# Altium footprint library PCB.PCBLIB: 320 footprints (part 5 of 20)
Each footprint in its own frame and in the unit in brackets; x right, y up, seen from the top. Pads: shape width x height; smd on the part's side, far side on the other; paste and mask are expansions set on the pad; w line width, h text height; cw(c..) or ccw(c..) is an arc to the next point about the centre after c.
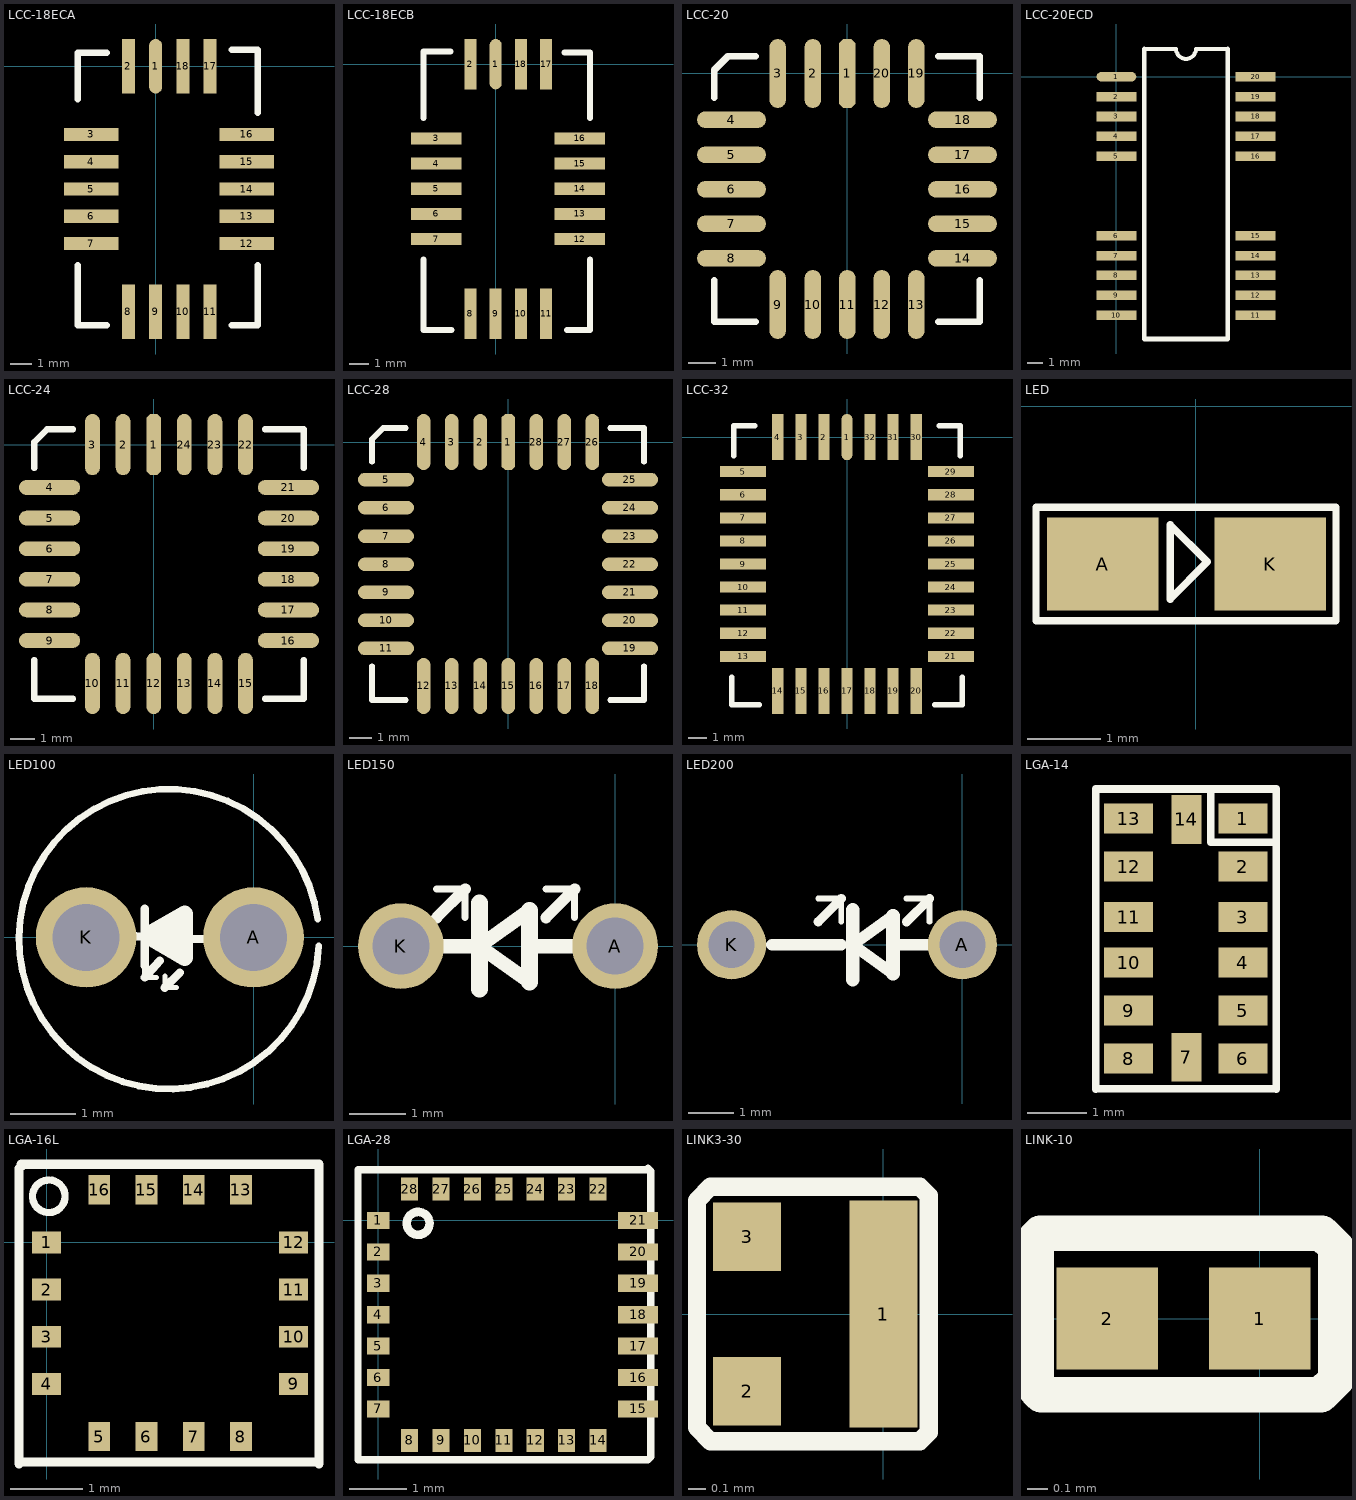
[diagram p4: the footprints below, top view; thin cyan lines are the x and y axes]

## LCC-18ECA [mil]
pads (18):
  oval 24x100 smd: 1(0,0)
  rect 24x100 smd: 2(-50,0) 8(-50,-450) 9(0,-450) 10(50,-450) 11(100,-450) 17(100,0) 18(50,0)
  rect 100x24 smd: 3(-118,-125) 4(-118,-175) 5(-118,-225) 6(-118,-275) 7(-118,-325) 12(167,-325) 13(167,-275) 14(167,-225) 15(167,-175) 16(167,-125)
TopOverlay:
  lines w12: -143,-365 -143,-475 -90,-475 ; -143,-60 -143,25 -90,25 ; 140,-475 187,-475 187,-365 ; 140,30 187,30 187,-85

## LCC-18ECB [mil]
pads (18):
  oval 24x100 smd: 1(0,0)
  rect 24x100 smd: 2(-50,0) 8(-50,-495) 9(0,-495) 10(50,-495) 11(100,-495) 17(100,0) 18(50,0)
  rect 100x24 smd: 3(-118,-147) 4(-118,-197) 5(-118,-247) 6(-118,-297) 7(-118,-347) 12(167,-347) 13(167,-297) 14(167,-247) 15(167,-197) 16(167,-147)
TopOverlay:
  lines w12: -143,-387 -143,-527 -88,-527 ; -143,-107 -143,25 -90,25 ; 137,23 187,23 187,-107 ; 142,-527 187,-527 187,-387

## LCC-20 [mil]
pads (20):
  oct 24x100 smd: 1(0,0)
  oval 24x100 smd: 2(-50,0) 3(-101,0) 9(-101,-335) 10(-50,-335) 11(0,-335) 12(50,-335) 13(100,-335) 19(100,0) 20(50,0)
  oval 100x24 smd: 4(-168,-67) 5(-168,-118) 6(-168,-168) 7(-168,-218) 8(-168,-268) 14(167,-268) 15(167,-218) 16(167,-168) 17(167,-118) 18(167,-67)
TopOverlay:
  lines w10: -193,-300 -193,-360 -133,-360 ; -193,-35 -193,5 -173,25 -133,25 ; 132,-360 192,-360 192,-300 ; 132,25 192,25 192,-35

## LCC-20ECD [mil]
pads (20):
  oval 100x24 smd: 1(0,0)
  rect 100x24 smd: 2(0,-50) 3(0,-100) 4(0,-150) 5(0,-200) 6(0,-400) 7(0,-450) 8(0,-500) 9(0,-550) 10(0,-600) 11(350,-600) 12(350,-550) 13(350,-500) 14(350,-450) 15(350,-400) 16(350,-200) 17(350,-150) 18(350,-100) 19(350,-50) 20(350,0)
TopOverlay:
  lines w10: 70,70 150,70 ccw(c175,70) 200,70 280,70
  lines w12: 70,70 70,-660 280,-660 280,70

## LCC-24 [mil]
pads (24):
  oct 24x100 smd: 1(0,0)
  oval 24x100 smd: 2(-50,0) 3(-100,0) 10(-100,-390) 11(-50,-390) 12(0,-390) 13(50,-390) 14(100,-390) 15(150,-390) 22(150,0) 23(100,0) 24(50,0)
  oval 100x24 smd: 4(-170,-70) 5(-170,-120) 6(-170,-170) 7(-170,-220) 8(-170,-270) 9(-170,-320) 16(220,-320) 17(220,-270) 18(220,-220) 19(220,-170) 20(220,-120) 21(220,-70)
TopOverlay:
  lines w10: -195,-352 -195,-415 -132,-415 ; -195,-38 -195,4 -174,25 -132,25 ; 182,-415 245,-415 245,-352 ; 182,25 245,25 245,-38

## LCC-28 [mil]
pads (28):
  oct 24x100 smd: 1(0,0)
  oval 24x100 smd: 2(-50,0) 3(-101,0) 4(-151,0) 12(-151,-435) 13(-101,-435) 14(-50,-435) 15(0,-435) 16(50,-435) 17(100,-435) 18(150,-435) 26(150,0) 27(100,0) 28(50,0)
  oval 100x24 smd: 5(-218,-67) 6(-218,-117) 7(-218,-168) 8(-218,-218) 9(-218,-268) 10(-218,-318) 11(-218,-368) 19(217,-368) 20(217,-318) 21(217,-268) 22(217,-218) 23(217,-168) 24(217,-117) 25(217,-67)
TopOverlay:
  lines w10: -243,-400 -243,-460 -183,-460 ; -243,-35 -243,5 -223,25 -183,25 ; 182,-460 242,-460 242,-400 ; 182,25 242,25 242,-35

## LCC-32 [mil]
pads (32):
  oval 24x100 smd: 1(0,0)
  rect 24x100 smd: 2(-50,0) 3(-100,0) 4(-150,0) 14(-150,-550) 15(-100,-550) 16(-50,-550) 17(0,-550) 18(50,-550) 19(100,-550) 20(150,-550) 30(150,0) 31(100,0) 32(50,0)
  rect 100x24 smd: 5(-225,-75) 6(-225,-125) 7(-225,-175) 8(-225,-225) 9(-225,-275) 10(-225,-325) 11(-225,-375) 12(-225,-425) 13(-225,-475) 21(225,-475) 22(225,-425) 23(225,-375) 24(225,-325) 25(225,-275) 26(225,-225) 27(225,-175) 28(225,-125) 29(225,-75)
TopOverlay:
  lines w12: -250,-520 -250,-580 -190,-580 ; -245,-40 -245,25 -200,25 ; 190,-580 250,-580 250,-520 ; 200,25 245,25 245,-40

## LED [mil]
pads (2):
  rect 60x50 smd: A(-50,-85) K(40,-85)
TopOverlay:
  lines w4: -85.98,-115.51 75.43,-115.51 75.43,-54.49 -85.98,-54.49 -85.98,-115.51 ; -13.87,-103.87 6.13,-83.87 -13.87,-63.87 -13.87,-103.87

## LED100 [mil]
pads (2):
  round 60 hole 40: A(0,0) K(-100,0)
TopOverlay:
  lines w3: -65,-17 -65,-24 -58,-24 ; -53,-23 -53,-30 -46,-30
  lines w4: 38.3,10.86 ccw(c-50.47,-0.98) 39,-5
  lines w5: -74,1 -62,0 ; -65,-24 -56,-14 ; -65,-17 -65,17 ; -53,-30 -44,-21 ; -41,-1 -27,-1
  lines w10: -62,0 -41,-12 -41,13 ; -62,2 -41,14 ; -51,1 -41,1

## LED150 [mil]
pads (2):
  round 60 hole 40: A(0,0) K(-150,0)
TopOverlay:
  lines w5: -125,40 -105,40 -105,20 ; -48.42,40 -28.42,40 -28.42,20
  lines w8: -125,20 -105,40 ; -48.42,20 -28.42,40
  lines w10: -125,0 -95,0 ; -60,-25 -95,0 ; -60,25 -95,0 ; -55,0 -30,0
  lines w12: -95,-30 -95,30 ; -60,-25 -60,25

## LED200 [mil]
pads (2):
  round 60 hole 40: A(0,0) K(-200,0)
TopOverlay:
  lines w5: -125,40 -105,40 -105,20 ; -48.42,40 -28.42,40 -28.42,20
  lines w8: -125,20 -105,40 ; -48.42,20 -28.42,40
  lines w10: -165,0 -135,0 -105,0 ; -60,-25 -95,0 -60,25 ; -55,0 -30,0
  lines w12: -95,-30 -95,30 ; -60,-25 -60,25

## LGA-14 [mil]
pads (14):
  rect 32.01x19.68 smd: 1(-10866,6955.5) 2(-10866,6924.01) 3(-10866,6891) 4(-10866,6861.02) 5(-10866,6829.52) 6(-10866,6798.02) 8(-10941,6798.02) 9(-10941,6829.52) 10(-10941,6861.02) 11(-10941,6891) 12(-10941,6924.01) 13(-10941,6955.5)
  rect 19.68x32.01 smd: 7(-10903,6799) 14(-10903,6955)
TopOverlay:
  lines w5: -10962.62,6778.15 -10962.62,6975 -10844.51,6975 ; -10962.62,6778.39 -10844.51,6778.39 ; -10887,6940 -10846,6940 ; -10887,6941 -10887,6974 ; -10844,6778.15 -10844,6975

## LGA-16L [mm]
pads (16):
  rect 0.4x0.3 smd: 1(0,0) 2(0,-0.65) 3(0,-1.3) 4(0,-1.95) 9(3.4,-1.95) 10(3.4,-1.3) 11(3.4,-0.65) 12(3.4,0)
  rect 0.3x0.4 smd: 5(0.725,-2.675) 6(1.375,-2.675) 7(2.025,-2.675) 8(2.675,-2.675) 13(2.675,0.725) 14(2.025,0.725) 15(1.375,0.725) 16(0.725,0.725)
TopOverlay:
  circle w0.1: c0.03,0.635 r0.224
  lines w0.127: -0.381,-3.048 -0.381,1.016 -0.35,1.047 -0.35,1.075 3.75,1.075 ; -0.381,-3 -0.356,-3.025 3.75,-3.025 ; 3.751,1.075 3.75,1.075 ; 3.75,-3.048 3.75,1.075 ; 3.75,-3.048 3.75,-3.048

## LGA-28 [mm]
pads (28):
  rect 0.4x0.3 smd: 1(0,0) 2(0,-0.55) 3(0,-1.1) 4(0,-1.65) 5(0,-2.2) 6(0,-2.75) 7(0,-3.3)
  rect 0.3x0.4 smd: 8(0.55,-3.85) 9(1.1,-3.85) 10(1.65,-3.85) 11(2.2,-3.85) 12(2.75,-3.85) 13(3.3,-3.85) 14(3.85,-3.85) 22(3.85,0.55) 23(3.3,0.55) 24(2.75,0.55) 25(2.2,0.55) 26(1.65,0.55) 27(1.1,0.55) 28(0.55,0.55)
  rect 0.7x0.3 smd: 15(4.55,-3.3) 16(4.55,-2.75) 17(4.55,-2.2) 18(4.55,-1.65) 19(4.55,-1.1) 20(4.55,-0.55) 21(4.55,0)
TopOverlay:
  circle w0.15: c0.7,-0.05 r0.2
  lines w0.127: -0.354,-4.189 -0.354,0.713 -0.354,0.887 4.697,0.887 4.724,0.914 4.775,0.864 4.775,-4.14 4.726,-4.189 -0.354,-4.189

## LINK3-30 [mil]
pads (3):
  rect 15x50 smd: 1(0,0)
  rect 15x15 smd: 2(-30,-17) 3(-30,17)
TopOverlay:
  lines w4: -41,-25 -38,-28 -9,-28 8,-28 10,-26 10,26 8,28 -8,28 -38,28 -41,25 -41,-25

## LINK-10 [mil]
pads (2):
  rect 20x20 smd: 1(0,0) 2(-30,0)
TopOverlay:
  lines w7: -44,16 -44,-14 -43,-15 12,-15 15,-12 15,14 12.2,16.8 -43.2,16.8